# EAGLE library part UCC37321 (library Fugu_LSI)
Single 9-A High-Speed Low-Side Mosfet Driver With Enable
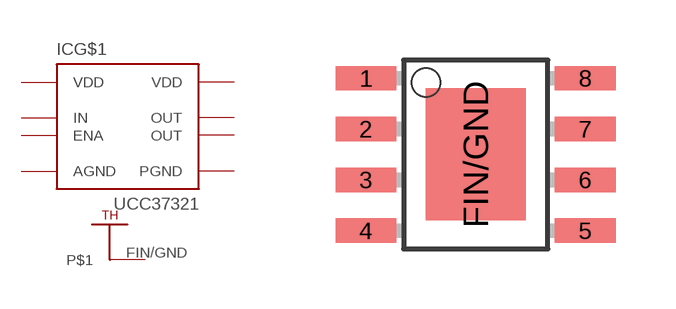
[diagram p27: symbol with the pads of SO-8-FIN; footprint SO-8-FIN]

Designator prefix IC; gates G$1=UCC3732X G$2=THERMAL_HEATSINK

## UCC37321DGN  [SO-8-FIN]
1  G$1:VDD
2  G$1:IN
3  G$1:ENA
4  G$1:AGND
5  G$1:PGND
6  G$1:OUT
7  G$1:OUT
8  G$1:VDD
FIN/GND  G$2:P$1

## Footprint SO-8-FIN (pad centres in mm)
smd 1.524 x 0.61: 1 -2.743,1.905; 2 -2.743,0.635; 3 -2.743,-0.635; 4 -2.743,-1.905; 5 2.743,-1.905; 6 2.743,-0.635; 7 2.743,0.635; 8 2.743,1.905
smd 2.5 x 3.3: FIN/GND 0,0